# Altium footprint library shared_lib.PcbLib: 46 footprints (part 2 of 3)
Each footprint in its own frame and in the unit in brackets; x right, y up, seen from the top. Pads: shape width x height; smd on the part's side, far side on the other; paste and mask are expansions set on the pad; w line width, h text height; cw(c..) or ccw(c..) is an arc to the next point about the centre after c.
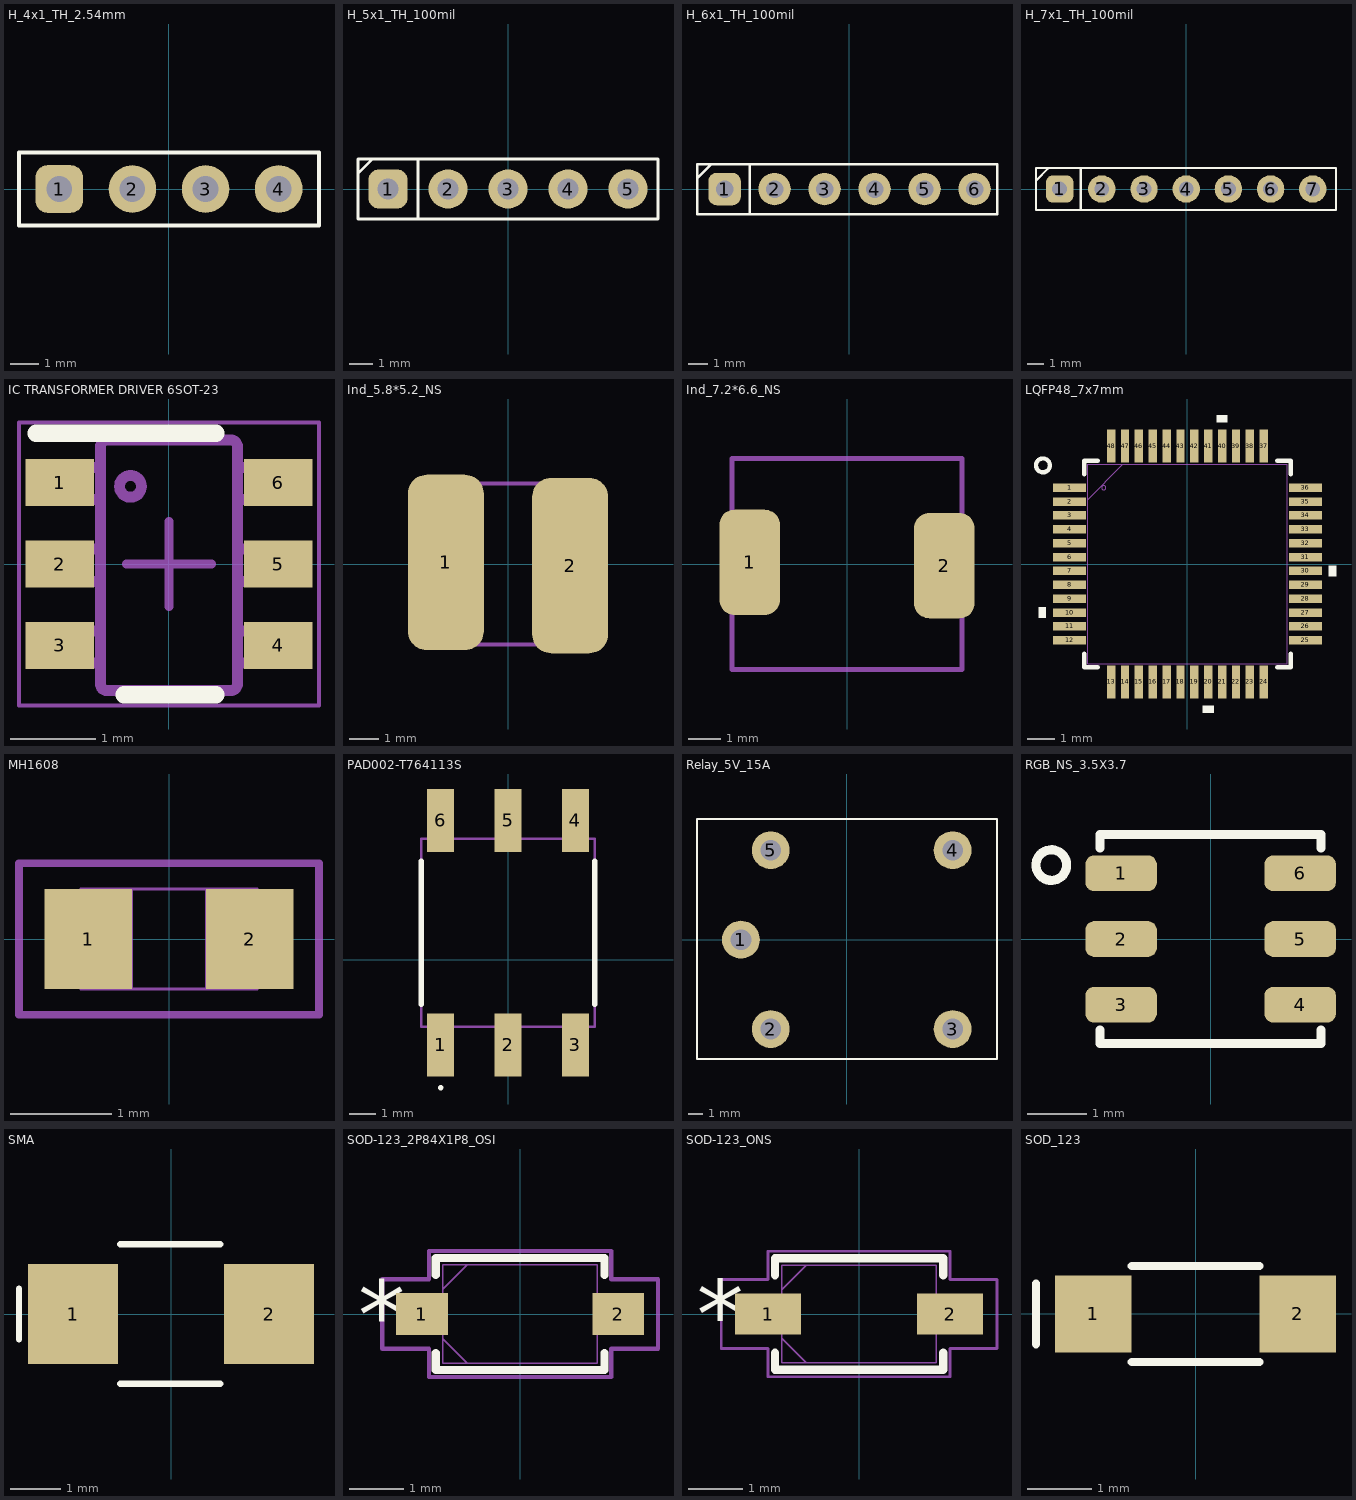
[diagram p1: the footprints below, top view; thin cyan lines are the x and y axes]

## H_4x1_TH_2.54mm [mil]
pads (4):
  rrect50% 65x65 hole 35: 1(-150,0)
  round 65 hole 35: 2(-50,0) 3(50,0) 4(150,0)
Top Overlay:
  lines w5: -205,-50 -205,50 205.12,50 205.12,-50 -205,-50
3D body "TSW-104-14-T-S.step": height 420, standoff -110, extent -200.01,-50 204.99,50

## H_5x1_TH_100mil [mil]
pads (5):
  rrect50% 65x65 hole 35: 1(-200,0)
  round 65 hole 35: 2(-100,0) 3(0,0) 4(100,0) 5(200,0)
Top Overlay:
  lines w5: -250.01,25.86 -225.87,50 ; -150,-50 -150,50 ; -250.01,-50 -250.01,50 249.99,50 249.99,-50 -250.01,-50
3D body "CircuitWorks-HEADER 2_54 VERTICAL 5X.STEP": height 335.15, standoff -97.93, extent -250.01,-49.21 249.99,49.21

## H_6x1_TH_100mil [mil]
pads (6):
  rrect50% 65x65 hole 35: 1(-250,0)
  round 65 hole 35: 2(-150,0) 3(-50,0) 4(50,0) 5(150,0) 6(250,0)
Top Overlay:
  lines w5: -305,20.87 -275.87,50 ; -200,-50 -200,50 ; -305,-50 -305,50 295,50 295,-50 -305,-50

## H_7x1_TH_100mil [mil]
pads (7):
  rrect50% 65x65 hole 35: 1(-300,0)
  round 65 hole 35: 2(-200,0) 3(-100,0) 4(0,0) 5(100,0) 6(200,0) 7(300,0)
Top Overlay:
  lines w5: -356,19.68 -326.87,48.82 ; -250,-50 -250,50 ; -356,-50 -356,50 355,50 355,-50 -356,-50

## IC TRANSFORMER DRIVER 6SOT-23 [mm]
pads (6):
  rect 0.8x0.55 smd paste+0 mask+0.051: 1(-1.275,0.95) 2(-1.275,0) 3(-1.275,-0.95) 4(1.275,-0.95) 5(1.275,0) 6(1.275,0.95)
Top Overlay:
  lines w0.2: -1.55,1.525 0.55,1.525 ; -0.525,-1.525 0.55,-1.525
Mechanical 13:
  lines w0.127: 0.724,-1.475 ccw(c0.723,-1.399) 0.8,-1.399 0.8,1.37 ccw(c0.723,1.37) 0.724,1.446 ; 0.723,-1.475 -0.724,-1.475 -0.725,-1.475 cw(c-0.724,-1.399) -0.801,-1.399 -0.801,1.37 cw(c-0.724,1.37) -0.725,1.446 -0.724,1.446 0.723,1.446 ; 0.723,-1.475 0.724,-1.475 ; 0.723,1.446 0.724,1.446 ; -1.423,-1.154 -1.423,-0.78 -1.206,-0.78 -1.113,-0.78 -1.081,-0.78 -0.828,-0.78 -0.801,-0.78 -0.801,-1.154 -0.828,-1.154 -1.081,-1.154 -1.113,-1.154 -1.206,-1.154 -1.423,-1.154 ; -1.423,-0.202 -1.423,0.173 -1.206,0.173 -1.113,0.173 -1.081,0.173 -0.828,0.173 -0.801,0.173 -0.801,-0.202 -0.828,-0.202 -1.081,-0.202 -1.113,-0.202 -1.206,-0.202 -1.423,-0.202 ; -1.423,0.751 -1.423,1.125 -1.206,1.125 -1.113,1.125 -1.081,1.125 -0.828,1.125 -0.801,1.125 -0.801,0.751 -0.828,0.751 -1.081,0.751 -1.113,0.751 -1.206,0.751 -1.423,0.751 ; -0.577,0.906 ccw(c-0.45,0.906) -0.323,0.906 ccw(c-0.45,0.906) -0.577,0.906 ; 0.8,-1.154 0.8,-0.78 0.827,-0.78 1.08,-0.78 1.112,-0.78 1.205,-0.78 1.422,-0.78 1.422,-1.154 1.205,-1.154 1.112,-1.154 1.08,-1.154 0.827,-1.154 0.8,-1.154 ; 0.8,-0.202 0.8,0.173 0.827,0.173 1.08,0.173 1.112,0.173 1.205,0.173 1.422,0.173 1.422,-0.202 1.205,-0.202 1.112,-0.202 1.08,-0.202 0.827,-0.202 0.8,-0.202 ; 0.8,0.751 0.8,1.125 0.827,1.125 1.08,1.125 1.112,1.125 1.205,1.125 1.422,1.125 1.422,0.751 1.205,0.751 1.112,0.751 1.08,0.751 0.827,0.751 0.8,0.751
Mechanical 15:
  lines w0.05: -1.75,-1.65 -1.75,1.65 1.75,1.65 1.75,-1.65 -1.75,-1.65
  lines w0.1: -0.5,0 0.5,0 ; 0,-0.5 0,0.5
3D body "DBV0006A.stp": height 1.2, standoff 0, extent -1.44,-1.421 1.36,1.479

## Ind_5.8*5.2_NS [mm]
pads (2):
  rrect50% 2.6x6 smd: 1(-2.125,0.053) 2(2.125,-0.053)
Mechanical 1:
  lines w0.152: -3,-2.75 -3,2.75 3,2.75 3,-2.75 -3,-2.75
3D body: height 4.5, standoff 0, extent -3,-2.75 3,2.75

## Ind_7.2*6.6_NS [mm]
pads (2):
  rrect50% 1.9x3.3 smd: 1(-3.05,0.053) 2(3.05,-0.053)
Mechanical 1:
  lines w0.152: -3.6,-3.3 3.6,-3.3 3.6,3.3 -3.6,3.3 -3.6,-3.3
3D body: height 3, standoff 0, extent -3.6,-3.3 3.6,3.3

## LQFP48_7x7mm [mm]
pads (48):
  rect 1.194x0.305 smd paste+0 mask+0.046: 1(-4.25,2.75) 2(-4.25,2.25) 3(-4.25,1.75) 4(-4.25,1.25) 5(-4.25,0.75) 6(-4.25,0.25) 7(-4.25,-0.25) 8(-4.25,-0.75) 9(-4.25,-1.25) 10(-4.25,-1.75) 11(-4.25,-2.25) 12(-4.25,-2.75) 25(4.25,-2.75) 26(4.25,-2.25) 27(4.25,-1.75) 28(4.25,-1.25) 29(4.25,-0.75) 30(4.25,-0.25) 31(4.25,0.25) 32(4.25,0.75) 33(4.25,1.25) 34(4.25,1.75) 35(4.25,2.25) 36(4.25,2.75)
  rect 0.305x1.194 smd paste+0 mask+0.046: 13(-2.75,-4.25) 14(-2.25,-4.25) 15(-1.75,-4.25) 16(-1.25,-4.25) 17(-0.75,-4.25) 18(-0.25,-4.25) 19(0.25,-4.25) 20(0.75,-4.25) 21(1.25,-4.25) 22(1.75,-4.25) 23(2.25,-4.25) 24(2.75,-4.25) 37(2.75,4.25) 38(2.25,4.25) 39(1.75,4.25) 40(1.25,4.25) 41(0.75,4.25) 42(0.25,4.25) 43(-0.25,4.25) 44(-0.75,4.25) 45(-1.25,4.25) 46(-1.75,4.25) 47(-2.25,4.25) 48(-2.75,4.25)
Top Overlay:
  circle w0.152: c-5.207,3.556 r0.251
  region: -5.101,-1.559 -5.355,-1.559 -5.355,-1.94 -5.101,-1.94
  region: 5.101,-0.059 5.355,-0.059 5.355,-0.44 5.101,-0.44
  region: 1.441,5.101 1.06,5.101 1.06,5.355 1.441,5.355
  region: 0.941,-5.101 0.56,-5.101 0.56,-5.355 0.941,-5.355
  lines w0.152: -3.721,-3.235 -3.721,-3.721 -3.235,-3.721 ; -3.721,3.235 -3.721,3.721 -3.235,3.721 ; 3.235,-3.721 3.721,-3.721 3.721,-3.235 ; 3.235,3.721 3.721,3.721 3.721,3.235
Mechanical 13:
  circle w0: c-3.018,2.75 r0.076
  lines w0.025: -3.594,2.324 -2.324,3.594 ; -3.594,-3.594 3.594,-3.594 3.594,3.594 -3.594,3.594 -3.594,-3.594
3D body "LQFP48-7x7mm.step": height 1.6, standoff 0, extent -4.497,-4.497 4.497,4.497

## MH1608 [mil]
pads (2):
  rect 34x39 smd paste+0 mask+0: 1(-31.5,0) 2(31.5,0)
Mechanical 13:
  lines w1: -34.5,-19.5 -34.5,19.5 ; -34.5,-19.5 34.5,-19.5 ; -34.5,-19.5 -14.5,-19.5 -14.5,19.5 -34.5,19.5 ; -34.5,-19.5 -34.5,19.5 ; -34.5,19.5 34.5,19.5 ; 34.5,-19.5 34.5,19.5 ; 34.5,-19.5 34.5,19.5 ; 34.5,-19.5 14.5,-19.5 14.5,19.5 34.5,19.5
Mechanical 15:
  lines w3: -58.5,-29.5 58.5,-29.5 58.5,29.5 -58.5,29.5 -58.5,-29.5
3D body "IND_BOURNS_MH1608.step": height 39.02, standoff 0, extent -34.49,-19.49 34.49,19.49

## PAD002-T764113S [mm]
pads (6):
  rect 1.02x2.375 smd: 1(-2.54,-3.221) 2(0,-3.221) 3(2.54,-3.221) 4(2.54,5.253) 5(0,5.253) 6(-2.54,5.253)
Top Overlay:
  lines w0.1: -2.54,-4.884 cw(c-2.54,-4.834) -2.54,-4.784 ; -2.54,-4.884 ccw(c-2.54,-4.834) -2.54,-4.784 ; -2.54,-4.884 cw(c-2.54,-4.834) -2.54,-4.784
  lines w0.2: -3.275,-1.684 -3.275,3.716 ; 3.275,-1.684 3.275,3.716
Mechanical 15:
  lines w0.1: -3.275,-2.534 3.275,-2.534 3.275,4.566 -3.275,4.566 -3.275,-2.534
3D body "PAD002-T764113S.stp": height 4.5, standoff 0, extent -3.342,-3.947 3.208,5.903

## Relay_5V_15A [mm]
pads (5):
  round 2.54 hole 1.397: 1(-7.1,0) 2(-5.1,-6) 3(7.1,-6) 4(7.1,6) 5(-5.1,6)
Top Overlay:
  lines w0.127: -10.045,-8.007 -10.045,8.097 10.072,8.097 10.072,-8.007 -10.045,-8.007
3D body "User Library-RELAY  12MMx12MM SQUARE.STEP": height 15.02, standoff -1.98, extent -10.102,-7.999 9.898,8.001

## RGB_NS_3.5X3.7 [mm]
pads (6):
  rrect50% 1.2x0.6 smd: 1(-1.5,1.1) 2(-1.5,0) 3(-1.5,-1.1) 4(1.5,-1.1) 5(1.5,0) 6(1.5,1.1)
Top Overlay:
  circle w0.152: c-2.669,1.238 r0.257
  lines w0.152: -1.85,-1.524 -1.85,-1.75 1.85,-1.75 1.85,-1.524 ; -1.85,1.524 -1.85,1.75 1.85,1.75 1.85,1.524
3D body: height 1, standoff 0, extent -1.849,-1.744 1.849,1.751

## SMA [mm]
pads (2):
  rect 1.8x2 smd: 1(-1.965,0) 2(1.965,0)
Top Overlay:
  lines w0.127: -3.048,-0.508 -3.048,0.508 ; -1.016,-1.397 0.984,-1.397 ; -1.016,1.397 0.984,1.397
3D body "SMASeries_LTF.step": height 2.34, standoff 0, extent -2.642,-1.397 2.642,1.397

## SOD-123_2P84X1P8_OSI [mil]
pads (2):
  rect 37.56x30.36 smd paste+0 mask+0: 1(-71,0) 2(71,0)
Top Overlay:
  lines w6: -61,-28.28 -61,-40.5 61,-40.5 61,-28.28 ; -61,28.28 -61,40.5 61,40.5 61,28.28
  text "*" at -117.28,-25 h50
Mechanical 13:
  lines w1: -56,-17.75 -38.25,-35.5 ; -56,17.75 -38.25,35.5 ; -76,-14 -76,14 -56,14 -56,-14 -76,-14 ; -56,-35.5 56,-35.5 56,35.5 -56,35.5 -56,-35.5 ; 56,-14 56,14 76,14 76,-14 56,-14
Mechanical 15:
  lines w3: -99.78,-25.18 -99.78,25.18 -66,25.18 -66,45.5 66,45.5 66,25.18 99.78,25.18 99.78,-25.18 66,-25.18 66,-45.5 -66,-45.5 -66,-25.18 -99.78,-25.18
3D body "SOD-123_2P84X1P8_OSI.step": height 53.11, standoff 0, extent -75.98,-35.51 75.98,35.51

## SOD-123_ONS [mil]
pads (2):
  rect 48x30 smd paste+0 mask+0: 1(-66,0) 2(66,0)
Top Overlay:
  lines w6: -61,-28.1 -61,-40.5 61,-40.5 61,-28.1 ; -61,28.1 -61,40.5 61,40.5 61,28.1
  text "*" at -117.5,-25 h50
Mechanical 13:
  lines w1: -56,-17.75 -38.25,-35.5 ; -56,17.75 -38.25,35.5 ; -76,-14 -76,14 -56,14 -56,-14 -76,-14 ; -56,-35.5 56,-35.5 56,35.5 -56,35.5 -56,-35.5 ; 56,-14 56,14 76,14 76,-14 56,-14
Mechanical 15:
  lines w2: -100,-25 -100,25 -66,25 -66,45.5 66,45.5 66,25 100,25 100,-25 66,-25 66,-45.5 -66,-45.5 -66,-25 -100,-25
3D body "SOD-123_ONS.step": height 53.11, standoff 0, extent -75.98,-35.51 75.98,35.51

## SOD_123 [mm]
pads (2):
  rect 1.2x1.2 smd: 1(-1.6,0) 2(1.6,0)
Top Overlay:
  lines w0.127: -2.5,-0.475 -2.5,0.475 ; -1,-0.75 1,-0.75 ; -1,0.749 1,0.749
3D body "SOD123.step": height 1.28, standoff 0.01, extent -1.926,-0.8 1.774,0.8